# Altium schematic symbol library MEZD74800A-A.SchLib: 1 symbol
Pins are listed as number, name and electrical type; pins without a type are passive.

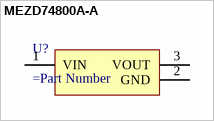
[diagram p0: symbol MEZD74800A-A]

## MEZD74800A-A
designator U?
=Description
pins: 1 VIN (power), 2 GND (power), 3 VOUT (power)